# Altium schematic symbol library BSC070N10NS3.Schlib: 1 symbol
Pins are listed as number, name and electrical type; pins without a type are passive.

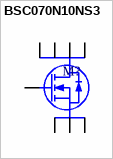
[diagram p0: symbol BSC070N10NS3]

## BSC070N10NS3
designator M?
100V 92A N-Channel
pins: 1 S, 2 S, 3 S, 4 G, 5 D, 6 D, 7 D, 8 D